# Altium schematic symbol library GRM32ER61A107ME20L.SchLib: 1 symbol
Pins are listed as number, name and electrical type; pins without a type are passive.

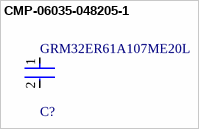
[diagram p0: symbol CMP-06035-048205-1]

## CMP-06035-048205-1
designator C?, comment GRM32ER61A107ME20L
Chip Multilayer Ceramic Capacitors for General Purpose, 1210, 100uF, X5R, 15%, 20%, 10V; Dissipation Factor: 0.035%; Packaging: Tape and Reel; Width: 2.5mm; Case/Package: 1210; Min Operating Temperature: -55°C; Depth: 2.5mm; Package Quantity: 1000; Case Code (Imperial): 1210; Voltage Rating: 10V; Dielectric Material: Ceramic; Length: 3.2mm; Lead Free: Lead Free; REACH SVHC: No SVHC; Mount: Surface Mount; Height: 2.5mm; Voltage Rating (DC): 10V; Dielectric: X5R; Thickness: 0.106inch; Weight: 0.00388oz; Material: Ceramic; Termination: SMD/SMT; Tolerance: 20%; Case Code (Metric): 3225; Voltage: 10V; Max Operating Temperature: 85°C; Capacitance: 100uF
footprint FP-GRM32E-0_3-0_2-IPC_B
footprint FP-GRM32E-0_3-0_2-MFG
footprint FP-GRM32E-0_3-0_2-IPC_C
footprint FP-GRM32E-0_3-0_2-IPC_A
pins: 1, 2